# Altium footprint library Diodes.PcbLib: 2 footprints
Each footprint in its own frame and in the unit in brackets; x right, y up, seen from the top. Pads: shape width x height; smd on the part's side, far side on the other; paste and mask are expansions set on the pad; w line width, h text height; cw(c..) or ccw(c..) is an arc to the next point about the centre after c.
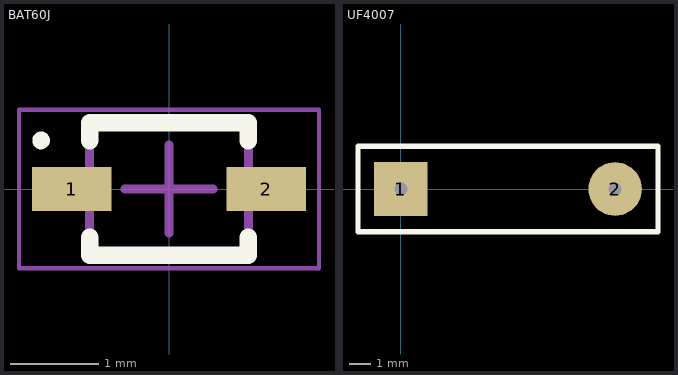
[diagram p0: the footprints below, top view; thin cyan lines are the x and y axes]

## BAT60J [mm] "SODFL, 2-Leads, Body 1,28x2,50mm, IPC Medium Density"
height 1.2
pads (2):
  rect 0.9x0.5 smd: 1(-1.1,0) 2(1.1,0)
Top Overlay:
  circle w0.1: c-1.45,0.55 r0.05
  lines w0.2: -0.9,-0.55 -0.9,-0.75 0.9,-0.75 0.9,-0.55 ; -0.9,0.55 -0.9,0.75 0.9,0.75 0.9,0.55
Top Assy:
  lines w0.1: -0.9,-0.725 -0.9,0.725 0.9,0.725 0.9,-0.725 -0.9,-0.725
Top ConturComponent:
  lines w0.05: -1.7,-0.9 -1.7,0.9 1.7,0.9 1.7,-0.9 -1.7,-0.9
  lines w0.1: -0.5,0 0.5,0 ; 0,-0.5 0,0.5
3D body "BAT60J.step": height 1.2, standoff 0, extent -1.25,-0.725 1.25,0.725

## UF4007 [mm]
pads (2):
  rect 2.5x2.5 hole 0.6: 1(0,0)
  round 2.5 hole 0.6: 2(10,0)
Top Overlay:
  lines w0.254: -2,-2 12,-2 12,2 -2,2 -2,-2
3D body "DO-41 10mm.SLDPRT": height 4.36, standoff -1, extent -0.43,-1.225 10.43,1.5